# EAGLE library part CDCE937QPWRQ1 (library SamacSys_Parts)
Automotive Catalog Programmable 3-PLL VCXO Clock Synthesizer with 2.5-V or 3.3-V LVCMOS Outputs Source: Datasheet <http://www.ti.com/lit/gpn/cdce937-q1>
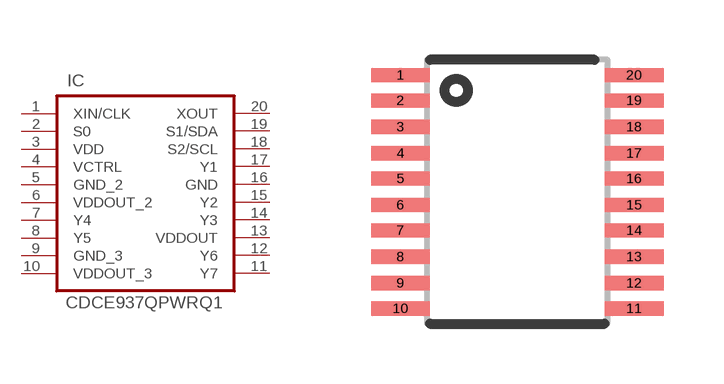
[diagram p0: symbol with the pads of SOP65P640X120-20N; footprint SOP65P640X120-20N]

Designator prefix IC

## CDCE937QPWRQ1 (DESCRIPTION: Automotive Catalog Programmable 3-PLL VCXO Clock Synthesizer with 2.5-V or 3.3-V LVCMOS Outputs; HEIGHT: mm; MANUFACTURER_NAME: Texas Instruments; MANUFACTURER_PART_NUMBER: CDCE937QPWRQ1; MOUSER_PART_NUMBER: 595-CDCE937QPWRQ1; MOUSER_PRICE-STOCK: https://www.mouser.com/Search/Refine.aspx?Keyword=595-CDCE937QPWRQ1)  [SOP65P640X120-20N]
1  XIN/CLK
2  S0
3  VDD
4  VCTRL
5  GND_2
6  VDDOUT_2
7  Y4
8  Y5
9  GND_3
10  VDDOUT_3
11  Y7
12  Y6
13  VDDOUT
14  Y3
15  Y2
16  GND
17  Y1
18  S2/SCL
19  S1/SDA
20  XOUT

## Footprint SOP65P640X120-20N (pad centres in mm)
SOP65P640X120-20N
smd 1.473 x 0.356: 1 -2.921,2.921; 2 -2.921,2.286; 3 -2.921,1.626; 4 -2.921,0.965; 5 -2.921,0.33; 6 -2.921,-0.33; 7 -2.921,-0.965; 8 -2.921,-1.626; 9 -2.921,-2.286; 10 -2.921,-2.921; 11 2.921,-2.921; 12 2.921,-2.286; 13 2.921,-1.626; 14 2.921,-0.965; 15 2.921,-0.33; 16 2.921,0.33; 17 2.921,0.965; 18 2.921,1.626; 19 2.921,2.286; 20 2.921,2.921